# Altium schematic symbol library STM32F723VET6.SchLib: 2 symbols
Pins are listed as number, name and electrical type; pins without a type are passive.

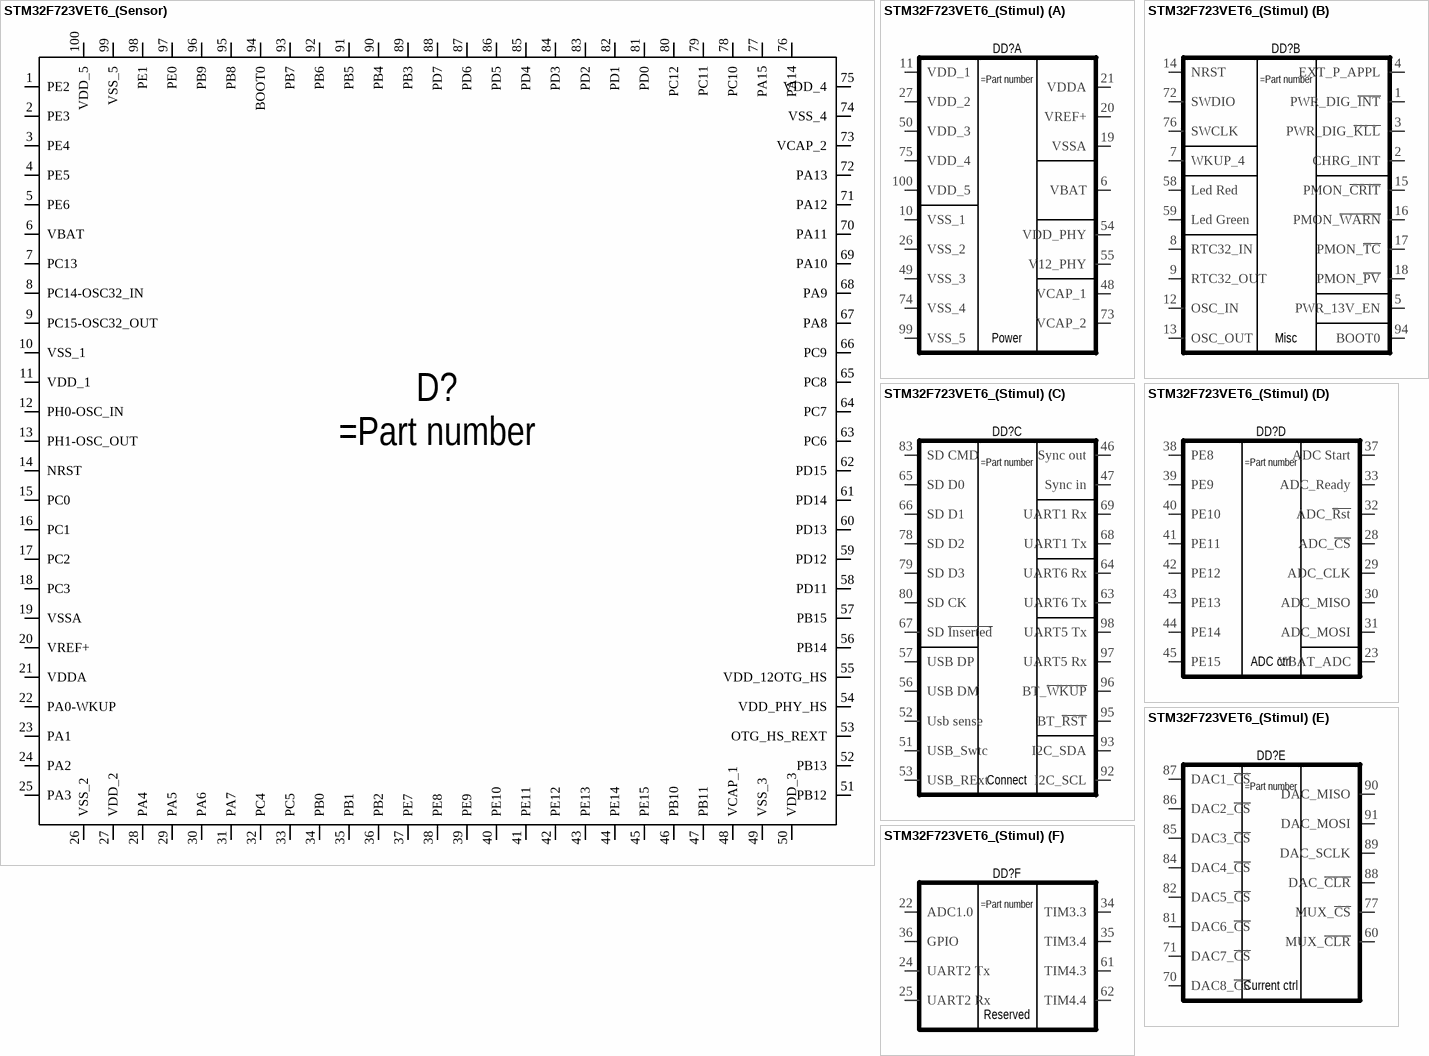
[diagram p0: symbols STM32F723VET6_(Sensor) to STM32F723VET6_(Stimul)]

## STM32F723VET6_(Sensor)
designator D?
High-performance, Arm Cortex-M33 MCU
pins: 1 PE2, 2 PE3, 3 PE4, 4 PE5, 5 PE6, 6 VBAT, 7 PC13, 8 PC14-OSC32_IN, 9 PC15-OSC32_OUT, 10 VSS_1, 11 VDD_1, 12 PH0-OSC_IN, 13 PH1-OSC_OUT, 14 NRST, 15 PC0, 16 PC1, 17 PC2, 18 PC3, 19 VSSA, 20 VREF+, 21 VDDA, 22 PA0-WKUP, 23 PA1, 24 PA2, 25 PA3, 26 VSS_2, 27 VDD_2, 28 PA4, 29 PA5, 30 PA6, 31 PA7, 32 PC4, 33 PC5, 34 PB0, 35 PB1, 36 PB2, 37 PE7, 38 PE8, 39 PE9, 40 PE10, 41 PE11, 42 PE12, 43 PE13, 44 PE14, 45 PE15, 46 PB10, 47 PB11, 48 VCAP_1, 49 VSS_3, 50 VDD_3, 51 PB12, 52 PB13, 53 OTG_HS_REXT, 54 VDD_PHY_HS, 55 VDD_12OTG_HS, 56 PB14, 57 PB15, 58 PD11, 59 PD12, 60 PD13, 61 PD14, 62 PD15, 63 PC6, 64 PC7, 65 PC8, 66 PC9, 67 PA8, 68 PA9, 69 PA10, 70 PA11, 71 PA12, 72 PA13, 73 VCAP_2, 74 VSS_4, 75 VDD_4, 76 PA14, 77 PA15, 78 PC10, 79 PC11, 80 PC12, 81 PD0, 82 PD1, 83 PD2, 84 PD3, 85 PD4, 86 PD5, 87 PD6, 88 PD7, 89 PB3, 90 PB4, 91 PB5, 92 PB6, 93 PB7, 94 BOOT0, 95 PB8, 96 PB9, 97 PE0, 98 PE1, 99 VSS_5, 100 VDD_5

## STM32F723VET6_(Stimul)
designator DD?
High-performance, Arm Cortex-M33 MCU
part A pins: 6 VBAT, 10 VSS_1, 11 VDD_1, 19 VSSA, 20 VREF+, 21 VDDA, 26 VSS_2, 27 VDD_2, 48 VCAP_1, 49 VSS_3, 50 VDD_3, 54 VDD_PHY, 55 V12_PHY, 73 VCAP_2, 74 VSS_4, 75 VDD_4, 99 VSS_5, 100 VDD_5
part B pins: 1 PWR_DIG_~{INT}, 2 CHRG_INT, 3 PWR_DIG_~{KLL}, 4 EXT_P_APPL, 5 PWR_13V_EN, 7 WKUP_4, 8 RTC32_IN, 9 RTC32_OUT, 12 OSC_IN, 13 OSC_OUT, 14 NRST, 15 PMON_~{CRIT}, 16 PMON_~{WARN}, 17 PMON_~{TC}, 18 PMON_~{PV}, 58 Led Red, 59 Led Green, 72 SWDIO, 76 SWCLK, 94 BOOT0
part C pins: 46 Sync out, 47 Sync in, 51 USB_Swtc, 52 Usb sense, 53 USB_RExt, 56 USB DM, 57 USB DP, 63 UART6 Tx, 64 UART6 Rx, 65 SD D0, 66 SD D1, 67 SD ~{Inserted}, 68 UART1 Tx, 69 UART1 Rx, 78 SD D2, 79 SD D3, 80 SD CK, 83 SD CMD, 92 I2C_SCL, 93 I2C_SDA, 95 BT_~{RST}, 96 BT_~{WKUP}, 97 UART5 Rx, 98 UART5 Tx
part D pins: 23 VBAT_ADC, 28 ADC_~{CS}, 29 ADC_CLK, 30 ADC_MISO, 31 ADC_MOSI, 32 ADC_~{Rst}, 33 ADC_Ready, 37 ADC Start, 38 PE8, 39 PE9, 40 PE10, 41 PE11, 42 PE12, 43 PE13, 44 PE14, 45 PE15
part E pins: 60 MUX_~{CLR}, 70 DAC8_~{CS}, 71 DAC7_~{CS}, 77 MUX_~{CS}, 81 DAC6_~{CS}, 82 DAC5_~{CS}, 84 DAC4_~{CS}, 85 DAC3_~{CS}, 86 DAC2_~{CS}, 87 DAC1_~{CS}, 88 DAC_~{CLR}, 89 DAC_SCLK, 90 DAC_MISO, 91 DAC_MOSI
part F pins: 22 ADC1.0, 24 UART2 Tx, 25 UART2 Rx, 34 TIM3.3, 35 TIM3.4, 36 GPIO, 61 TIM4.3, 62 TIM4.4
part A text: Power
part B text: Misc
part C text: Connect
part D text: ADC ctrl
part E text: Current ctrl
part F text: Reserved